# Altium footprint library WE-CBF.PcbLib: 18 footprints (part 2 of 2)
Each footprint in its own frame and in the unit in brackets; x right, y up, seen from the top. Pads: shape width x height; smd on the part's side, far side on the other; paste and mask are expansions set on the pad; w line width, h text height; cw(c..) or ccw(c..) is an arc to the next point about the centre after c.
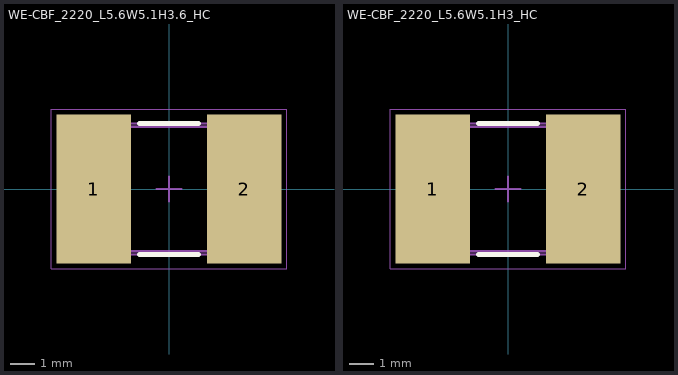
[diagram p1: the footprints below, top view; thin cyan lines are the x and y axes]

## WE-CBF_2220_L5.6W5.1H3.6_HC [mm] "SMD EMI Suppression Ferrite  Bead, body 5.60x5.10mm"
height 3.6
pads (2):
  rect 3.05x6.1 smd: 1(-3.075,0) 2(3.075,0)
Top Overlay:
  lines w0.2: -1.2,-2.675 1.2,-2.675 ; -1.2,2.675 1.2,2.675
Top Assembly:
  lines w0.1: -3.055,-2.675 -3.055,2.675 3.055,2.675 3.055,-2.675 -3.055,-2.675
Top Designator:
  text ".Designator" at -3.647,-0.357 h1
Top 3D Body:
  lines w0.1: -2.8,-2.55 2.8,-2.55 2.8,2.55 -2.8,2.55 -2.8,-2.55
Top Courtyard:
  lines w0.05: -4.8,-3.25 4.8,-3.25 4.8,3.25 -4.8,3.25 -4.8,-3.25
Top Component Center:
  lines w0.1: -0.5,0 0.5,0 ; 0,-0.5 0,0.5
3D body "7427928801.stp": height 3.6, standoff 0, extent -2.795,-2.54 2.795,2.54

## WE-CBF_2220_L5.6W5.1H3_HC [mm] "SMD EMI Suppression Ferrite  Bead, body 5.60x5.10mm"
height 3
pads (2):
  rect 3.05x6.1 smd: 1(-3.075,0) 2(3.075,0)
Top Overlay:
  lines w0.2: -1.2,-2.675 1.2,-2.675 ; -1.2,2.675 1.2,2.675
Top Assembly:
  lines w0.1: -3.055,-2.675 3.055,-2.675 3.055,2.675 -3.055,2.675 -3.055,-2.675
Top Designator:
  text ".Designator" at -3.647,-0.357 h1
Top 3D Body:
  lines w0.1: -2.8,-2.55 -2.8,2.55 2.8,2.55 2.8,-2.55 -2.8,-2.55
Top Courtyard:
  lines w0.05: -4.8,-3.25 4.8,-3.25 4.8,3.25 -4.8,3.25 -4.8,-3.25
Top Component Center:
  lines w0.1: -0.5,0 0.5,0 ; 0,-0.5 0,0.5
3D body "7427928601.stp": height 3, standoff 0, extent -2.795,-2.54 2.795,2.54